# Altium schematic symbol library 74HC74D,653.SchLib: 1 symbol
Pins are listed as number, name and electrical type; pins without a type are passive.

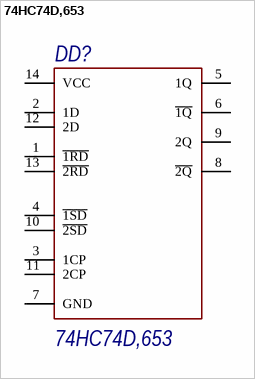
[diagram p0: symbol 74HC74D,653]

## 74HC74D,653
designator DD?
MF: Nexperia USA; SnapEDA_Link: https://www.snapeda.com/parts/74HC74D,653/Nexperia/view-part/?ref=snap; Package: SO14-14 Nexperia USA Inc.; Value: *; MP: 74HC74D,653; Check_prices: https://www.snapeda.com/parts/74HC74D,653/Nexperia/view-part/?ref=eda
pins: 1 ~{1RD}, 2 1D, 3 1CP, 4 ~{1SD}, 5 1Q, 6 ~{1Q}, 7 GND, 8 ~{2Q}, 9 2Q, 10 ~{2SD}, 11 2CP, 12 2D, 13 ~{2RD}, 14 VCC